# Altium footprint library IntergratedCircuits.PcbLib: 39 footprints (part 1 of 3)
Each footprint in its own frame and in the unit in brackets; x right, y up, seen from the top. Pads: shape width x height; smd on the part's side, far side on the other; paste and mask are expansions set on the pad; w line width, h text height; cw(c..) or ccw(c..) is an arc to the next point about the centre after c.
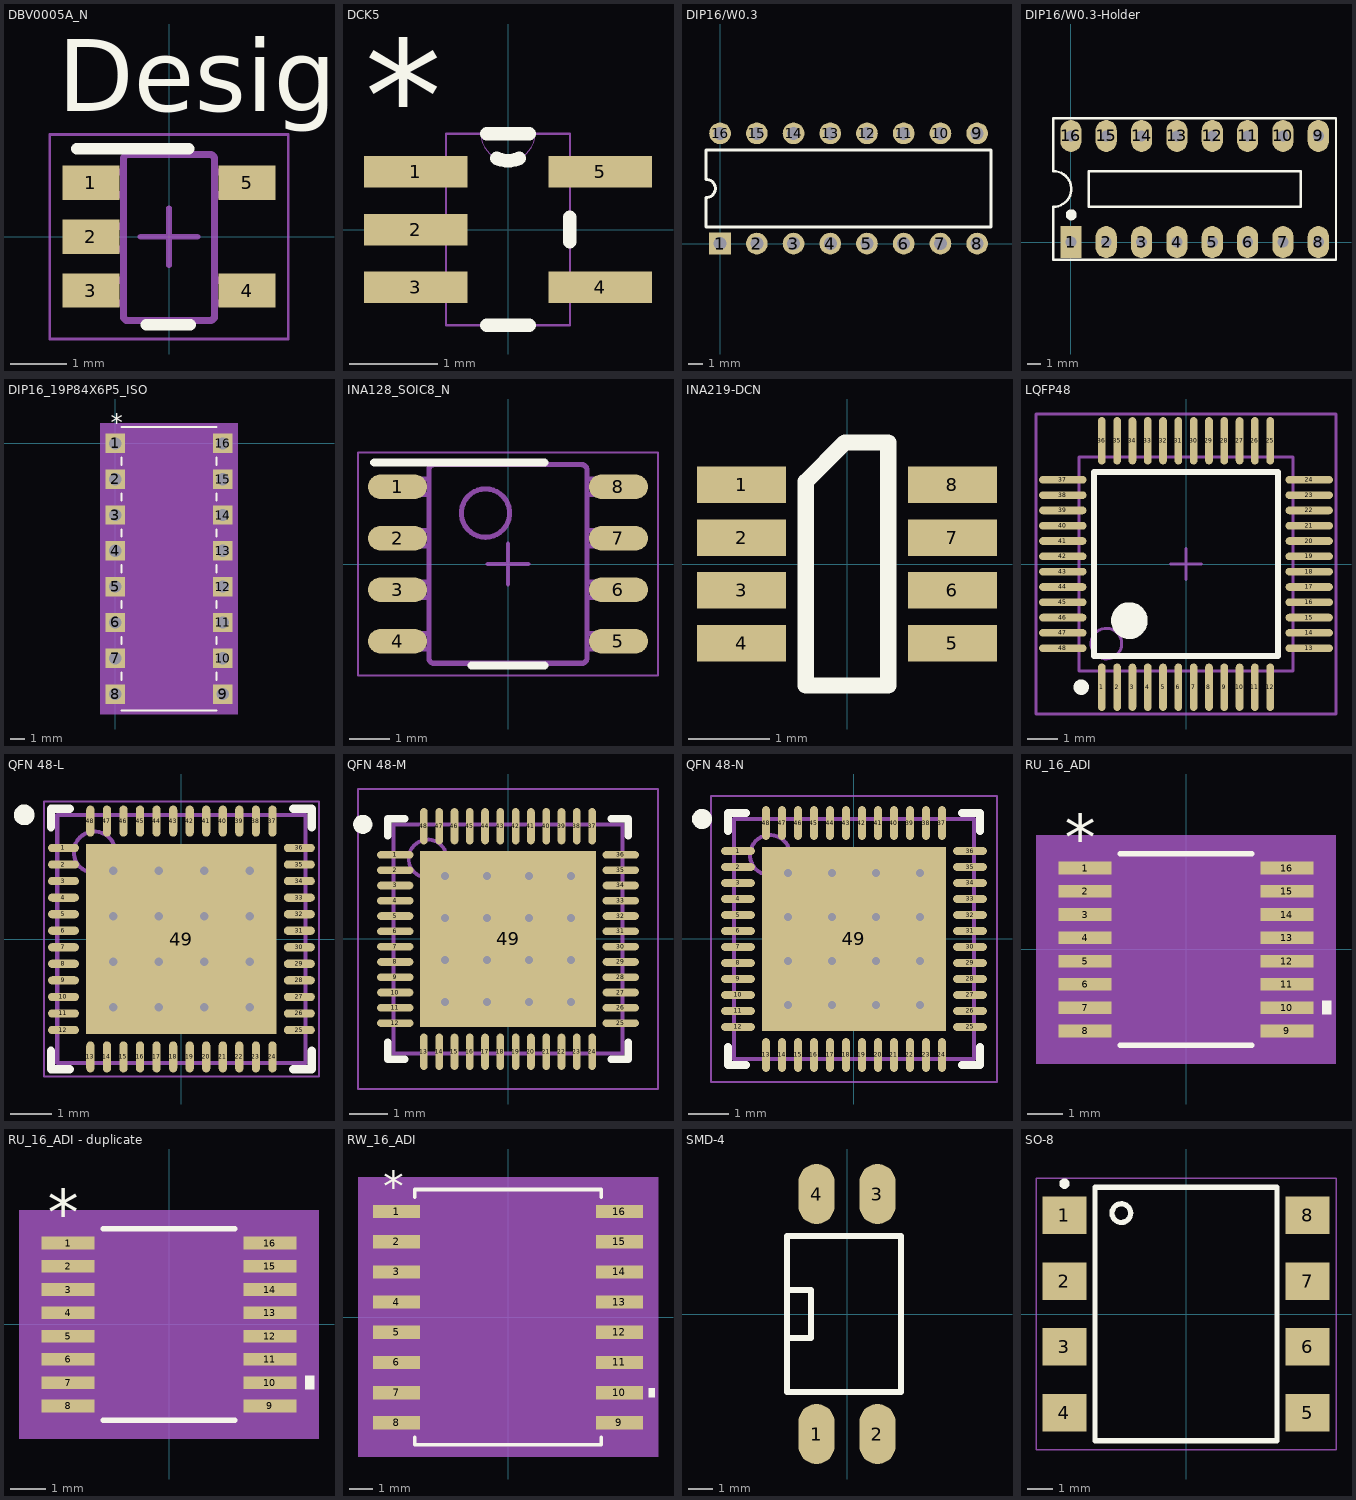
[diagram p0: the footprints below, top view; thin cyan lines are the x and y axes]

## DBV0005A_N [mm]
pads (5):
  rect 1x0.6 smd paste+0 mask+0.051: 1(-1.375,0.95) 2(-1.375,0) 3(-1.375,-0.95) 4(1.375,-0.95) 5(1.375,0.95)
Top Overlay:
  lines w0.2: -1.625,1.55 0.35,1.55 ; -0.4,-1.55 0.375,-1.55
  text "Designator9" at -1.956,2.21 h1.27
Mechanical 13:
  lines w0.127: -0.801,1.371 cw(c-0.725,1.37) -0.725,1.446 ; -0.801,1.37 -0.801,1.371 ; -0.801,1.37 -0.801,-1.399 -0.801,-1.4 ccw(c-0.725,-1.399) -0.725,-1.475 ; -0.725,-1.475 0.723,-1.475 0.724,-1.475 ccw(c0.723,-1.399) 0.799,-1.4 0.799,-1.399 0.799,1.37 ; -0.725,-1.475 -0.725,-1.475 ; -0.725,1.446 -0.725,1.446 ; -0.725,1.446 0.723,1.446 0.724,1.446 cw(c0.723,1.37) 0.799,1.371 ; 0.799,1.37 0.799,1.371 ; -1.423,-1.167 -1.423,-0.767 -1.199,-0.767 -1.105,-0.767 -1.088,-0.767 -0.835,-0.767 -0.801,-0.767 -0.801,-1.167 -0.835,-1.167 -1.088,-1.167 -1.105,-1.167 -1.199,-1.167 -1.423,-1.167 ; -1.423,-0.215 -1.423,0.186 -1.199,0.186 -1.105,0.186 -1.088,0.186 -0.835,0.186 -0.801,0.186 -0.801,-0.215 -0.835,-0.215 -1.088,-0.215 -1.105,-0.215 -1.199,-0.215 -1.423,-0.215 ; -1.423,0.738 -1.423,1.138 -1.199,1.138 -1.105,1.138 -1.088,1.138 -0.835,1.138 -0.801,1.138 -0.801,0.738 -0.835,0.738 -1.088,0.738 -1.105,0.738 -1.199,0.738 -1.423,0.738 ; 0.799,-1.167 0.834,-1.167 1.087,-1.167 1.103,-1.167 1.198,-1.167 1.422,-1.167 1.422,-0.767 1.198,-0.767 1.103,-0.767 1.087,-0.767 0.834,-0.767 0.799,-0.767 0.799,-1.167 ; 0.799,0.738 0.834,0.738 1.087,0.738 1.103,0.738 1.198,0.738 1.422,0.738 1.422,1.138 1.198,1.138 1.103,1.138 1.087,1.138 0.834,1.138 0.799,1.138 0.799,0.738
  text ".Designator" at -0.885,0.95 h1.27
Mechanical 15:
  lines w0.05: -2.1,-1.8 -2.1,1.8 2.1,1.8 2.1,-1.8 -2.1,-1.8
  lines w0.1: -0.5,0 0.5,0 ; 0,-0.5 0,0.5
3D body: height 0.25, standoff 0, extent 0,0 0.254,0.254

## DCK5 [mil]
pads (5):
  rect 46x14 smd: 1(-41,25.59) 2(-41,0) 3(-41,-25.59) 4(41,-25.59) 5(41,25.59)
Top Overlay:
  lines w6: -9.43,-42.5 9.43,-42.5 ; -9.43,42.5 9.43,42.5 ; -4.9,31.55 ccw(c0,42.5) 4.9,31.55 ; 27.5,-5.49 27.5,5.49
  text "*" at -63.5,34.59 h50
Mechanical 13:
  lines w0: -12,42.5 ccw(c0,42.5) 12,42.5
  lines w1: -47,-31.59 -47,-19.59 -27.5,-19.59 -27.5,-31.59 -47,-31.59 ; -47,-6 -47,6 -27.5,6 -27.5,-6 -47,-6 ; -47,19.59 -47,31.59 -27.5,31.59 -27.5,19.59 -47,19.59 ; -27.5,-42.5 27.5,-42.5 27.5,42.5 -27.5,42.5 -27.5,-42.5 ; 27.5,-31.59 27.5,-19.59 47,-19.59 47,-31.59 27.5,-31.59 ; 27.5,19.59 27.5,31.59 47,31.59 47,19.59 27.5,19.59
  text "*" at -63.5,34.59 h50
3D body: height 10, standoff 0, extent 0,0 10,10
3D body "DCK5.step": height 43.11, standoff 0, extent -47,-42.51 47.01,42.52

## DIP16/W0.3 [mm] "DIP; 16 Leads; Row Spacing 7.62 mm; Pitch 2.54 mm"
height 4.58
pads (16):
  rect 1.5x1.5 hole 0.9: 1(0,0)
  round 1.5 hole 0.9: 2(2.54,0) 3(5.08,0) 4(7.62,0) 5(10.16,0) 6(12.7,0) 7(15.24,0) 8(17.78,0) 9(17.78,7.62) 10(15.24,7.62) 11(12.7,7.62) 12(10.16,7.62) 13(7.62,7.62) 14(5.08,7.62) 15(2.54,7.62) 16(0,7.62)
Top Overlay:
  lines w0.2: -0.96,1.16 -0.96,3.175 ccw(c-0.96,3.81) -0.96,4.445 -0.96,6.46 18.74,6.46 18.74,1.16 -0.96,1.16
Bottom Overlay:
  lines w0.254: -1.35,-1.175 -1.35,8.725 19.15,8.725 19.15,-1.175 -1.35,-1.175
3D body "DIP16-300.STEP": height 5.08, standoff -2.49, extent -1.15,-0.145 18.85,7.725

## DIP16/W0.3-Holder [mil] "16 PIN, W 300mil, Pin to pin 100mil"
height 100
pads (16):
  rect 60x90 hole 31: 1(0,0)
  oval 60x90 hole 31: 2(100,0) 3(200,0) 4(300,0) 5(400,0) 6(500,0) 7(600,0) 8(700,0) 9(700,300) 10(600,300) 11(500,300) 12(400,300) 13(300,300) 14(200,300) 15(100,300) 16(0,300)
Top Overlay:
  circle w15: c1,77 r8
  lines w7: -50.38,100.05 ccw(c-48.69,150.02) -50,200 ; -50,100 -50,-50 750,-50 750,350 -49,350 -50,349 ; -50,201 -50,350 ; 50,100 50,200 650,200 650,100 50,100
3D body "SW3dPS-DIP 16 _ socket 214.STEP": height 299.42, standoff -131.12, extent -51.7,-57.39 751.7,356

## DIP16_19P84X6P5_ISO [mil]
pads (16):
  rect 54x54 hole 34 mask+0: 1(0,0) 2(0,-100) 3(0,-200) 4(0,-300) 5(0,-400) 6(0,-500) 7(0,-600) 8(0,-700) 9(300,-700) 10(300,-600) 11(300,-500) 12(300,-400) 13(300,-300) 14(300,-200) 15(300,-100) 16(300,0)
Top Overlay:
  lines w6: 17,-745.5 283,-745.5 ; 17,-659.9 17,-640.1 ; 17,-559.9 17,-540.1 ; 17,-459.9 17,-440.1 ; 17,-359.9 17,-340.1 ; 17,-259.9 17,-240.1 ; 17,-159.9 17,-140.1 ; 17,-59.9 17,-40.1 ; 17,45.5 283,45.5 ; 283,-659.9 283,-640.1 ; 283,-559.9 283,-540.1 ; 283,-459.9 283,-440.1 ; 283,-359.9 283,-340.1 ; 283,-259.9 283,-240.1 ; 283,-159.9 283,-140.1 ; 283,-59.9 283,-40.1
  text "*" at -12.5,32 h50
Mechanical 5:
  region: 342,-755.5 -42,-755.5 -42,55.5 342,55.5
Mechanical 13:
  lines w0: 138,40.5 ccw(c150,40.5) 162,40.5
  lines w1: -17,-717 22,-717 22,-683 -17,-683 -17,-717 ; -17,-617 22,-617 22,-583 -17,-583 -17,-617 ; -17,-517 22,-517 22,-483 -17,-483 -17,-517 ; -17,-417 22,-417 22,-383 -17,-383 -17,-417 ; -17,-317 22,-317 22,-283 -17,-283 -17,-317 ; -17,-217 22,-217 22,-183 -17,-183 -17,-217 ; -17,-117 22,-117 22,-83 -17,-83 -17,-117 ; -17,-17 22,-17 22,17 -17,17 -17,-17 ; 22,-740.5 22,40.5 278,40.5 278,-740.5 22,-740.5 ; 278,-717 317,-717 317,-683 278,-683 278,-717 ; 278,-617 317,-617 317,-583 278,-583 278,-617 ; 278,-517 317,-517 317,-483 278,-483 278,-517 ; 278,-417 317,-417 317,-383 278,-383 278,-417 ; 278,-317 317,-317 317,-283 278,-283 278,-317 ; 278,-217 317,-217 317,-183 278,-183 278,-217 ; 278,-117 317,-117 317,-83 278,-83 278,-117 ; 278,-17 317,-17 317,17 278,17 278,-17
  text "*" at 19.5,-25 h50
Mechanical 15:
  region: 288,-737 337,-737 337,37 288,37 288,50.5 12,50.5 12,37 -37,37 -37,-737 12,-737 12,-750.5 288,-750.5
  lines w6: -37,-737 12,-737 12,-750.5 288,-750.5 288,-737 337,-737 337,37 288,37 288,50.5 12,50.5 12,37 -37,37 -37,-737
3D body "DIP16_19P84X6P5_ISO.step": height 145.12, standoff -100, extent -5,-740.51 315,40.51

## INA128_SOIC8_N [mm]
pads (8):
  oval 1.45x0.6 smd paste+0 mask+0.051: 1(-2.725,1.905) 2(-2.725,0.635) 3(-2.725,-0.635) 4(-2.725,-1.905) 5(2.725,-1.905) 6(2.725,-0.635) 7(2.725,0.635) 8(2.725,1.905)
Top Overlay:
  lines w0.2: -3.3,2.5 0.9,2.5 ; -0.9,-2.5 0.9,-2.5
Mechanical 13:
  lines w0.127: -2.375,-2.095 -1.995,-2.095 -1.952,-2.095 -1.952,-1.715 -1.995,-1.715 -2.375,-1.715 ; -2.375,-2.095 -2.589,-2.095 -3.002,-2.095 -3.002,-1.715 -2.589,-1.715 -2.375,-1.715 ; -2.375,-2.095 -2.375,-1.715 ; -2.375,-0.825 -1.995,-0.825 -1.952,-0.825 -1.952,-0.445 -1.995,-0.445 -2.375,-0.445 ; -2.375,-0.825 -2.589,-0.825 -3.002,-0.825 -3.002,-0.445 -2.589,-0.445 -2.375,-0.445 ; -2.375,-0.825 -2.375,-0.445 ; -2.375,0.445 -1.995,0.445 -1.952,0.445 -1.952,0.825 -1.995,0.825 -2.375,0.825 ; -2.375,0.445 -2.589,0.445 -3.002,0.445 -3.002,0.825 -2.589,0.825 -2.375,0.825 ; -2.375,0.445 -2.375,0.825 ; -2.375,1.715 -1.995,1.715 -1.952,1.715 -1.952,2.095 -1.995,2.095 -2.375,2.095 ; -2.375,1.715 -2.589,1.715 -3.002,1.715 -3.002,2.095 -2.589,2.095 -2.375,2.095 ; -2.375,1.715 -2.375,2.095 ; -0.332,-2.45 -1.825,-2.45 -1.826,-2.45 cw(c-1.825,-2.323) -1.952,-2.324 -1.952,-2.323 -1.952,2.323 -1.952,2.324 cw(c-1.825,2.323) -1.826,2.45 -1.825,2.45 -0.332,2.45 ; -0.332,-2.45 -0.182,-2.45 ; -0.332,-2.45 -0.182,-2.45 ; -0.332,2.45 -0.182,2.45 ; -0.332,2.45 -0.182,2.45 ; -0.182,-2.45 0.178,-2.45 ; -0.182,2.45 0.178,2.45 ; 0.178,-2.45 0.328,-2.45 ; 0.178,-2.45 0.328,-2.45 ; 0.178,2.45 0.328,2.45 ; 0.178,2.45 0.328,2.45 ; 0.328,-2.45 1.821,-2.45 1.822,-2.45 ccw(c1.821,-2.323) 1.948,-2.324 1.948,-2.323 1.948,2.323 1.948,2.324 ccw(c1.821,2.323) 1.822,2.45 1.821,2.45 0.328,2.45 ; 2.371,-2.095 2.585,-2.095 2.998,-2.095 2.998,-1.715 2.585,-1.715 2.371,-1.715 ; 2.371,-2.095 1.991,-2.095 1.948,-2.095 1.948,-1.715 1.991,-1.715 2.371,-1.715 ; 2.371,-2.095 2.371,-1.715 ; 2.371,-0.825 2.585,-0.825 2.998,-0.825 2.998,-0.445 2.585,-0.445 2.371,-0.445 ; 2.371,-0.825 1.991,-0.825 1.948,-0.825 1.948,-0.445 1.991,-0.445 2.371,-0.445 ; 2.371,-0.825 2.371,-0.445 ; 2.371,0.445 2.585,0.445 2.998,0.445 2.998,0.825 2.585,0.825 2.371,0.825 ; 2.371,0.445 1.991,0.445 1.948,0.445 1.948,0.825 1.991,0.825 2.371,0.825 ; 2.371,0.445 2.371,0.825 ; 2.371,1.715 2.585,1.715 2.998,1.715 2.998,2.095 2.585,2.095 2.371,2.095 ; 2.371,1.715 1.991,1.715 1.948,1.715 1.948,2.095 1.991,2.095 2.371,2.095 ; 2.371,1.715 2.371,2.095 ; -0.555,0.659 cw(c-0.555,1.256) -0.555,1.853 cw(c-0.555,1.256) -0.555,0.659
Mechanical 15:
  lines w0.05: -3.7,-2.75 3.7,-2.75 3.7,2.75 -3.7,2.75 -3.7,-2.75
  lines w0.1: -0.5,0 0.5,0 ; 0,-0.5 0,0.5
3D body: height 0.25, standoff 0, extent 0,0 0.254,0.254

## INA219-DCN [mm]
pads (8):
  rect 1.1x0.45 smd mask+0: 1(-1.3,0.975) 2(-1.3,0.325) 3(-1.3,-0.325) 4(-1.3,-0.975) 5(1.3,-0.975) 6(1.3,-0.325) 7(1.3,0.325) 8(1.3,0.975)
Top Overlay:
  lines w0.2: -0.508,-1.5 -0.508,1.016 -0.024,1.5 0.508,1.5 0.508,-1.5 -0.508,-1.5
3D body "User Library-SOT-23-8-Thin.STEP": height 1.1, standoff 0, extent -1.475,-1.475 1.475,1.475

## LQFP48 [mm]
pads (48):
  oval 0.25x1.55 smd: 1(-2.75,-4.025) 2(-2.25,-4.025) 3(-1.75,-4.025) 4(-1.25,-4.025) 5(-0.75,-4.025) 6(-0.25,-4.025) 7(0.25,-4.025) 8(0.75,-4.025) 9(1.25,-4.025) 10(1.75,-4.025) 11(2.25,-4.025) 12(2.75,-4.025) 25(2.75,4.025) 26(2.25,4.025) 27(1.75,4.025) 28(1.25,4.025) 29(0.75,4.025) 30(0.25,4.025) 31(-0.25,4.025) 32(-0.75,4.025) 33(-1.25,4.025) 34(-1.75,4.025) 35(-2.25,4.025) 36(-2.75,4.025)
  oval 1.55x0.25 smd: 13(4.025,-2.75) 14(4.025,-2.25) 15(4.025,-1.75) 16(4.025,-1.25) 17(4.025,-0.75) 18(4.025,-0.25) 19(4.025,0.25) 20(4.025,0.75) 21(4.025,1.25) 22(4.025,1.75) 23(4.025,2.25) 24(4.025,2.75) 37(-4.025,2.75) 38(-4.025,2.25) 39(-4.025,1.75) 40(-4.025,1.25) 41(-4.025,0.75) 42(-4.025,0.25) 43(-4.025,-0.25) 44(-4.025,-0.75) 45(-4.025,-1.25) 46(-4.025,-1.75) 47(-4.025,-2.25) 48(-4.025,-2.75)
Top Overlay:
  circle w0.6: c-1.85,-1.85 r0.3
  circle w0.25: c-3.425,-4.025 r0.125
  lines w0.2: -3,-3 -3,3 3,3 3,-3 -3,-3
Mechanical 13:
  circle w0.1: c-2.6,-2.6 r0.5
  lines w0.1: -3.5,-3.5 -3.5,3.5 3.5,3.5 3.5,-3.5 -3.5,-3.5
Mechanical 15:
  lines w0.1: -0.5,0 0.5,0 ; 0,-0.5 0,0.5 ; -4.9,-4.9 -4.9,4.9 4.9,4.9 4.9,-4.9 -4.9,-4.9
3D body "SW3dPS-LQFP48.STEP": height 1.5, standoff 0, extent -4.5,-4.5 4.5,4.5

## QFN 48-L [mm] "QFN, 48-Leads, Body 6.00x6.00mm, Pitch 0.40mm, Thermal Pad 4.60x4.60mm, IPC High Density"
height 0.9
pads (49):
  oval 0.75x0.2 smd: 1(-2.85,2.2) 2(-2.85,1.8) 3(-2.85,1.4) 4(-2.85,1) 5(-2.85,0.6) 6(-2.85,0.2) 7(-2.85,-0.2) 8(-2.85,-0.6) 9(-2.85,-1) 10(-2.85,-1.4) 11(-2.85,-1.8) 12(-2.85,-2.2) 25(2.85,-2.2) 26(2.85,-1.8) 27(2.85,-1.4) 28(2.85,-1) 29(2.85,-0.6) 30(2.85,-0.2) 31(2.85,0.2) 32(2.85,0.6) 33(2.85,1) 34(2.85,1.4) 35(2.85,1.8) 36(2.85,2.2)
  oval 0.2x0.75 smd: 13(-2.2,-2.85) 14(-1.8,-2.85) 15(-1.4,-2.85) 16(-1,-2.85) 17(-0.6,-2.85) 18(-0.2,-2.85) 19(0.2,-2.85) 20(0.6,-2.85) 21(1,-2.85) 22(1.4,-2.85) 23(1.8,-2.85) 24(2.2,-2.85) 37(2.2,2.85) 38(1.8,2.85) 39(1.4,2.85) 40(1,2.85) 41(0.6,2.85) 42(0.2,2.85) 43(-0.2,2.85) 44(-0.6,2.85) 45(-1,2.85) 46(-1.4,2.85) 47(-1.8,2.85) 48(-2.2,2.85)
  rect 4.6x4.6 smd: 49(0,0)
via 1.65,-1.65 diameter 0.5 hole 0.2
via 0.55,-1.65 diameter 0.5 hole 0.2
via -0.55,-1.65 diameter 0.5 hole 0.2
via -1.65,-1.65 diameter 0.5 hole 0.2
via 1.65,-0.55 diameter 0.5 hole 0.2
via 0.55,-0.55 diameter 0.5 hole 0.2
via -0.55,-0.55 diameter 0.5 hole 0.2
via -1.65,-0.55 diameter 0.5 hole 0.2
via 1.65,0.55 diameter 0.5 hole 0.2
via 0.55,0.55 diameter 0.5 hole 0.2
via -0.55,0.55 diameter 0.5 hole 0.2
via -1.65,0.55 diameter 0.5 hole 0.2
via 1.65,1.65 diameter 0.5 hole 0.2
via 0.55,1.65 diameter 0.5 hole 0.2
via -0.55,1.65 diameter 0.5 hole 0.2
via -1.65,1.65 diameter 0.5 hole 0.2
Top Overlay:
  circle w0.25: c-3.8,3 r0.125
  lines w0.2: -3.15,-2.7 -3.15,-3.15 -2.7,-3.15 ; -3.15,2.7 -3.15,3.15 -2.7,3.15 ; 2.7,-3.15 3.15,-3.15 3.15,-2.7 ; 2.7,3.15 3.15,3.15 3.15,2.7
Mechanical 13:
  circle w0.1: c-2.1,2.1 r0.5
  lines w0.1: -3,-3 3,-3 3,3 -3,3 -3,-3
Mechanical 15:
  lines w0.05: -3.325,-3.325 3.325,-3.325 3.325,3.325 -3.325,3.325 -3.325,-3.325
  lines w0.1: -0.5,0 0.5,0 ; 0,-0.5 0,0.5
3D body: height 0.9, standoff 0, extent -3,-3 3,3

## QFN 48-M [mm] "QFN, 48-Leads, Body 6.00x6.00mm, Pitch 0.40mm, Thermal Pad 4.60x4.60mm, IPC Low Density"
height 0.9
pads (49):
  oval 0.95x0.2 smd: 1(-2.95,2.2) 2(-2.95,1.8) 3(-2.95,1.4) 4(-2.95,1) 5(-2.95,0.6) 6(-2.95,0.2) 7(-2.95,-0.2) 8(-2.95,-0.6) 9(-2.95,-1) 10(-2.95,-1.4) 11(-2.95,-1.8) 12(-2.95,-2.2) 25(2.95,-2.2) 26(2.95,-1.8) 27(2.95,-1.4) 28(2.95,-1) 29(2.95,-0.6) 30(2.95,-0.2) 31(2.95,0.2) 32(2.95,0.6) 33(2.95,1) 34(2.95,1.4) 35(2.95,1.8) 36(2.95,2.2)
  oval 0.2x0.95 smd: 13(-2.2,-2.95) 14(-1.8,-2.95) 15(-1.4,-2.95) 16(-1,-2.95) 17(-0.6,-2.95) 18(-0.2,-2.95) 19(0.2,-2.95) 20(0.6,-2.95) 21(1,-2.95) 22(1.4,-2.95) 23(1.8,-2.95) 24(2.2,-2.95) 37(2.2,2.95) 38(1.8,2.95) 39(1.4,2.95) 40(1,2.95) 41(0.6,2.95) 42(0.2,2.95) 43(-0.2,2.95) 44(-0.6,2.95) 45(-1,2.95) 46(-1.4,2.95) 47(-1.8,2.95) 48(-2.2,2.95)
  rect 4.6x4.6 smd: 49(0,0)
via -1.65,1.65 diameter 0.5 hole 0.2
via -0.55,1.65 diameter 0.5 hole 0.2
via 0.55,1.65 diameter 0.5 hole 0.2
via 1.65,1.65 diameter 0.5 hole 0.2
via -1.65,0.55 diameter 0.5 hole 0.2
via -0.55,0.55 diameter 0.5 hole 0.2
via 0.55,0.55 diameter 0.5 hole 0.2
via 1.65,0.55 diameter 0.5 hole 0.2
via -1.65,-0.55 diameter 0.5 hole 0.2
via -0.55,-0.55 diameter 0.5 hole 0.2
via 0.55,-0.55 diameter 0.5 hole 0.2
via 1.65,-0.55 diameter 0.5 hole 0.2
via -1.65,-1.65 diameter 0.5 hole 0.2
via -0.55,-1.65 diameter 0.5 hole 0.2
via 0.55,-1.65 diameter 0.5 hole 0.2
via 1.65,-1.65 diameter 0.5 hole 0.2
Top Overlay:
  circle w0.25: c-3.8,3 r0.125
  lines w0.2: -3.15,-2.7 -3.15,-3.15 -2.7,-3.15 ; -3.15,2.7 -3.15,3.15 -2.7,3.15 ; 2.7,-3.15 3.15,-3.15 3.15,-2.7 ; 2.7,3.15 3.15,3.15 3.15,2.7
Mechanical 13:
  circle w0.1: c-2.1,2.1 r0.5
  lines w0.1: -3,-3 -3,3 3,3 3,-3 -3,-3
Mechanical 15:
  lines w0.05: -3.925,-3.925 -3.925,3.925 3.925,3.925 3.925,-3.925 -3.925,-3.925
  lines w0.1: -0.5,0 0.5,0 ; 0,-0.5 0,0.5
3D body: height 0.9, standoff 0, extent -3,-3 3,3

## QFN 48-N [mm] "QFN, 48-Leads, Body 6.00x6.00mm, Pitch 0.40mm, Thermal Pad 4.60x4.60mm, IPC Medium Density"
height 0.9
pads (49):
  oval 0.85x0.2 smd: 1(-2.9,2.2) 2(-2.9,1.8) 3(-2.9,1.4) 4(-2.9,1) 5(-2.9,0.6) 6(-2.9,0.2) 7(-2.9,-0.2) 8(-2.9,-0.6) 9(-2.9,-1) 10(-2.9,-1.4) 11(-2.9,-1.8) 12(-2.9,-2.2) 25(2.9,-2.2) 26(2.9,-1.8) 27(2.9,-1.4) 28(2.9,-1) 29(2.9,-0.6) 30(2.9,-0.2) 31(2.9,0.2) 32(2.9,0.6) 33(2.9,1) 34(2.9,1.4) 35(2.9,1.8) 36(2.9,2.2)
  oval 0.2x0.85 smd: 13(-2.2,-2.9) 14(-1.8,-2.9) 15(-1.4,-2.9) 16(-1,-2.9) 17(-0.6,-2.9) 18(-0.2,-2.9) 19(0.2,-2.9) 20(0.6,-2.9) 21(1,-2.9) 22(1.4,-2.9) 23(1.8,-2.9) 24(2.2,-2.9) 37(2.2,2.9) 38(1.8,2.9) 39(1.4,2.9) 40(1,2.9) 41(0.6,2.9) 42(0.2,2.9) 43(-0.2,2.9) 44(-0.6,2.9) 45(-1,2.9) 46(-1.4,2.9) 47(-1.8,2.9) 48(-2.2,2.9)
  rect 4.6x4.6 smd: 49(0,0)
via -1.65,1.65 diameter 0.5 hole 0.2
via -0.55,1.65 diameter 0.5 hole 0.2
via 0.55,1.65 diameter 0.5 hole 0.2
via 1.65,1.65 diameter 0.5 hole 0.2
via -1.65,0.55 diameter 0.5 hole 0.2
via -0.55,0.55 diameter 0.5 hole 0.2
via 0.55,0.55 diameter 0.5 hole 0.2
via 1.65,0.55 diameter 0.5 hole 0.2
via -1.65,-0.55 diameter 0.5 hole 0.2
via -0.55,-0.55 diameter 0.5 hole 0.2
via 0.55,-0.55 diameter 0.5 hole 0.2
via 1.65,-0.55 diameter 0.5 hole 0.2
via -1.65,-1.65 diameter 0.5 hole 0.2
via -0.55,-1.65 diameter 0.5 hole 0.2
via 0.55,-1.65 diameter 0.5 hole 0.2
via 1.65,-1.65 diameter 0.5 hole 0.2
Top Overlay:
  circle w0.25: c-3.8,3 r0.125
  lines w0.2: -3.15,-2.7 -3.15,-3.15 -2.7,-3.15 ; -3.15,2.7 -3.15,3.15 -2.7,3.15 ; 2.7,-3.15 3.15,-3.15 3.15,-2.7 ; 2.7,3.15 3.15,3.15 3.15,2.7
Mechanical 13:
  circle w0.1: c-2.1,2.1 r0.5
  lines w0.1: -3,-3 -3,3 3,3 3,-3 -3,-3
Mechanical 15:
  lines w0.05: -3.575,-3.575 -3.575,3.575 3.575,3.575 3.575,-3.575 -3.575,-3.575
  lines w0.1: -0.5,0 0.5,0 ; 0,-0.5 0,0.5
3D body: height 0.9, standoff 0, extent -3,-3 3,3

## RU_16_ADI [mil]
pads (16):
  rect 58x14 smd paste+0 mask+0: 1(-111,89.57) 2(-111,63.98) 3(-111,38.39) 4(-111,12.8) 5(-111,-12.8) 6(-111,-38.39) 7(-111,-63.98) 8(-111,-89.57) 9(111,-89.57) 10(111,-63.98) 11(111,-38.39) 12(111,-12.8) 13(111,12.8) 14(111,38.39) 15(111,63.98) 16(111,89.57)
Top Overlay:
  region: 150,-56.48 160,-56.48 160,-71.48 150,-71.48
  lines w6: -72.42,-105.5 72.42,-105.5 ; -72.42,105.5 72.42,105.5
  text "*" at -133.5,98.57 h50
Mechanical 5:
  region: 165,-125.5 -165,-125.5 -165,125.5 165,125.5
Mechanical 13:
  lines w0: -12,100.5 ccw(c0,100.5) 12,100.5
  lines w1: -126,-95.57 -126,-83.57 -88.5,-83.57 -88.5,-95.57 -126,-95.57 ; -126,-69.98 -126,-57.98 -88.5,-57.98 -88.5,-69.98 -126,-69.98 ; -126,-44.39 -126,-32.39 -88.5,-32.39 -88.5,-44.39 -126,-44.39 ; -126,-18.8 -126,-6.8 -88.5,-6.8 -88.5,-18.8 -126,-18.8 ; -126,6.8 -126,18.8 -88.5,18.8 -88.5,6.8 -126,6.8 ; -126,32.39 -126,44.39 -88.5,44.39 -88.5,32.39 -126,32.39 ; -126,57.98 -126,69.98 -88.5,69.98 -88.5,57.98 -126,57.98 ; -126,83.57 -126,95.57 -88.5,95.57 -88.5,83.57 -126,83.57 ; -88.5,-100.5 88.5,-100.5 88.5,100.5 -88.5,100.5 -88.5,-100.5 ; 88.5,-95.57 88.5,-83.57 126,-83.57 126,-95.57 88.5,-95.57 ; 88.5,-69.98 88.5,-57.98 126,-57.98 126,-69.98 88.5,-69.98 ; 88.5,-44.39 88.5,-32.39 126,-32.39 126,-44.39 88.5,-44.39 ; 88.5,-18.8 88.5,-6.8 126,-6.8 126,-18.8 88.5,-18.8 ; 88.5,6.8 88.5,18.8 126,18.8 126,6.8 88.5,6.8 ; 88.5,32.39 88.5,44.39 126,44.39 126,32.39 88.5,32.39 ; 88.5,57.98 88.5,69.98 126,69.98 126,57.98 88.5,57.98 ; 88.5,83.57 88.5,95.57 126,95.57 126,83.57 88.5,83.57
  text "*" at -86,47.5 h50
Mechanical 15:
  region: -98.5,-106.57 -150,-106.57 -150,106.57 -98.5,106.57 -98.5,110.5 98.5,110.5 98.5,106.57 150,106.57 150,-106.57 98.5,-106.57 98.5,-110.5 -98.5,-110.5
  lines w6: -150,-106.57 -150,106.57 -98.5,106.57 -98.5,110.5 98.5,110.5 98.5,106.57 150,106.57 150,-106.57 98.5,-106.57 98.5,-110.5 -98.5,-110.5 -98.5,-106.57 -150,-106.57
3D body "RU_16_ADI.step": height 47.09, standoff 0, extent -125.98,-100.51 125.98,100.51

## RU_16_ADI - duplicate [mil]
pads (16):
  rect 58x14 smd paste+0 mask+0: 1(-111,89.57) 2(-111,63.98) 3(-111,38.39) 4(-111,12.8) 5(-111,-12.8) 6(-111,-38.39) 7(-111,-63.98) 8(-111,-89.57) 9(111,-89.57) 10(111,-63.98) 11(111,-38.39) 12(111,-12.8) 13(111,12.8) 14(111,38.39) 15(111,63.98) 16(111,89.57)
Top Overlay:
  region: 150,-56.48 160,-56.48 160,-71.48 150,-71.48
  lines w6: -72.42,-105.5 72.42,-105.5 ; -72.42,105.5 72.42,105.5
  text "*" at -133.5,98.57 h50
Mechanical 5:
  region: 165,-125.5 -165,-125.5 -165,125.5 165,125.5
Mechanical 13:
  lines w0: -12,100.5 ccw(c0,100.5) 12,100.5
  lines w1: -126,-95.57 -88.5,-95.57 -88.5,-83.57 -126,-83.57 -126,-95.57 ; -126,-69.98 -88.5,-69.98 -88.5,-57.98 -126,-57.98 -126,-69.98 ; -126,-44.39 -88.5,-44.39 -88.5,-32.39 -126,-32.39 -126,-44.39 ; -126,-18.8 -88.5,-18.8 -88.5,-6.8 -126,-6.8 -126,-18.8 ; -126,6.8 -88.5,6.8 -88.5,18.8 -126,18.8 -126,6.8 ; -126,32.39 -88.5,32.39 -88.5,44.39 -126,44.39 -126,32.39 ; -126,57.98 -88.5,57.98 -88.5,69.98 -126,69.98 -126,57.98 ; -126,83.57 -88.5,83.57 -88.5,95.57 -126,95.57 -126,83.57 ; -88.5,-100.5 -88.5,100.5 88.5,100.5 88.5,-100.5 -88.5,-100.5 ; 88.5,-95.57 126,-95.57 126,-83.57 88.5,-83.57 88.5,-95.57 ; 88.5,-69.98 126,-69.98 126,-57.98 88.5,-57.98 88.5,-69.98 ; 88.5,-44.39 126,-44.39 126,-32.39 88.5,-32.39 88.5,-44.39 ; 88.5,-18.8 126,-18.8 126,-6.8 88.5,-6.8 88.5,-18.8 ; 88.5,6.8 126,6.8 126,18.8 88.5,18.8 88.5,6.8 ; 88.5,32.39 126,32.39 126,44.39 88.5,44.39 88.5,32.39 ; 88.5,57.98 126,57.98 126,69.98 88.5,69.98 88.5,57.98 ; 88.5,83.57 126,83.57 126,95.57 88.5,95.57 88.5,83.57
  text "*" at -86,47.5 h50
Mechanical 15:
  region: -98.5,-106.57 -150,-106.57 -150,106.57 -98.5,106.57 -98.5,110.5 98.5,110.5 98.5,106.57 150,106.57 150,-106.57 98.5,-106.57 98.5,-110.5 -98.5,-110.5
  lines w6: -150,-106.57 -98.5,-106.57 -98.5,-110.5 98.5,-110.5 98.5,-106.57 150,-106.57 150,106.57 98.5,106.57 98.5,110.5 -98.5,110.5 -98.5,106.57 -150,106.57 -150,-106.57
3D body "RU_16_ADI.step": height 47.09, standoff 0, extent -125.98,-100.51 125.98,100.51

## RW_16_ADI [mil]
pads (16):
  rect 78x22 smd paste+0 mask+0: 1(-184.5,175) 2(-184.5,125) 3(-184.5,75) 4(-184.5,25) 5(-184.5,-25) 6(-184.5,-75) 7(-184.5,-125) 8(-184.5,-175) 9(184.5,-175) 10(184.5,-125) 11(184.5,-75) 12(184.5,-25) 13(184.5,25) 14(184.5,75) 15(184.5,125) 16(184.5,175)
Top Overlay:
  region: 233.5,-117.5 243.5,-117.5 243.5,-132.5 233.5,-132.5
  lines w6: -154.5,-199.1 -154.5,-211.5 154.5,-211.5 154.5,-199.1 ; -154.5,199.1 -154.5,211.5 154.5,211.5 154.5,199.1
  text "*" at -207,192 h50
Mechanical 5:
  region: 248.5,-231.5 -248.5,-231.5 -248.5,231.5 248.5,231.5
Mechanical 13:
  lines w0: -12,206.5 ccw(c0,206.5) 12,206.5
  lines w1: -209.5,-185 -209.5,-165 -149.5,-165 -149.5,-185 -209.5,-185 ; -209.5,-135 -209.5,-115 -149.5,-115 -149.5,-135 -209.5,-135 ; -209.5,-85 -209.5,-65 -149.5,-65 -149.5,-85 -209.5,-85 ; -209.5,-35 -209.5,-15 -149.5,-15 -149.5,-35 -209.5,-35 ; -209.5,15 -209.5,35 -149.5,35 -149.5,15 -209.5,15 ; -209.5,65 -209.5,85 -149.5,85 -149.5,65 -209.5,65 ; -209.5,115 -209.5,135 -149.5,135 -149.5,115 -209.5,115 ; -209.5,165 -209.5,185 -149.5,185 -149.5,165 -209.5,165 ; -149.5,-206.5 149.5,-206.5 149.5,206.5 -149.5,206.5 -149.5,-206.5 ; 149.5,-185 149.5,-165 209.5,-165 209.5,-185 149.5,-185 ; 149.5,-135 149.5,-115 209.5,-115 209.5,-135 149.5,-135 ; 149.5,-85 149.5,-65 209.5,-65 209.5,-85 149.5,-85 ; 149.5,-35 149.5,-15 209.5,-15 209.5,-35 149.5,-35 ; 149.5,15 149.5,35 209.5,35 209.5,15 149.5,15 ; 149.5,65 149.5,85 209.5,85 209.5,65 149.5,65 ; 149.5,115 149.5,135 209.5,135 209.5,115 149.5,115 ; 149.5,165 149.5,185 209.5,185 209.5,165 149.5,165
  text "*" at -147,153.5 h50
Mechanical 15:
  region: -159.5,-196 -233.5,-196 -233.5,196 -159.5,196 -159.5,216.5 159.5,216.5 159.5,196 233.5,196 233.5,-196 159.5,-196 159.5,-216.5 -159.5,-216.5
  lines w6: -233.5,-196 -233.5,196 -159.5,196 -159.5,216.5 159.5,216.5 159.5,196 233.5,196 233.5,-196 159.5,-196 159.5,-216.5 -159.5,-216.5 -159.5,-196 -233.5,-196
3D body "RW_16_ADI.step": height 104.09, standoff 0, extent -209.49,-206.5 209.49,206.5

## SMD-4 [mm]
height 1.75
pads (4):
  oval 1.5x2.5 smd: 1(-1.27,-5) 2(1.27,-5) 3(1.27,5) 4(-1.27,5)
Top Overlay:
  lines w0.254: -2.5,-1 -1.5,-1 -1.5,1 -2.5,1 ; -2.5,-3.25 -2.5,3.25 2.25,3.25 2.25,-3.25 -2.5,-3.25
3D body "User Library-DIP4_opto_iso.STEP": height 3.95, standoff 0.05, extent -2.416,-5.015 2.416,5.015

## SO-8 [mm] "8-SMD IOptoisolators - Logic Output"
pads (8):
  rect 1.7x1.45 smd: 1(-4.7,3.81) 2(-4.7,1.27) 3(-4.7,-1.27) 4(-4.7,-3.81) 5(4.7,-3.81) 6(4.7,-1.27) 7(4.7,1.27) 8(4.7,3.81)
Top Overlay:
  circle w0.2: c-2.5,3.9 r0.361
  circle w0.2: c-4.7,5.04 r0.1
  lines w0.2: -3.525,-4.9 3.525,-4.9 3.525,4.9 -3.525,4.9 -3.525,-4.9
Mechanical 1:
  lines w0.05: -5.8,-5.25 5.8,-5.25 5.8,5.25 -5.8,5.25 -5.8,-5.25
3D body "SW3dPS-pdip8-smd.STEP": height 5.08, standoff 0, extent -5.15,-4.955 5.15,4.955